# Altium footprint library Antenna.PcbLib: 49 footprints (part 1 of 4)
Each footprint in its own frame and in the unit in brackets; x right, y up, seen from the top. Pads: shape width x height; smd on the part's side, far side on the other; paste and mask are expansions set on the pad; w line width, h text height; cw(c..) or ccw(c..) is an arc to the next point about the centre after c.
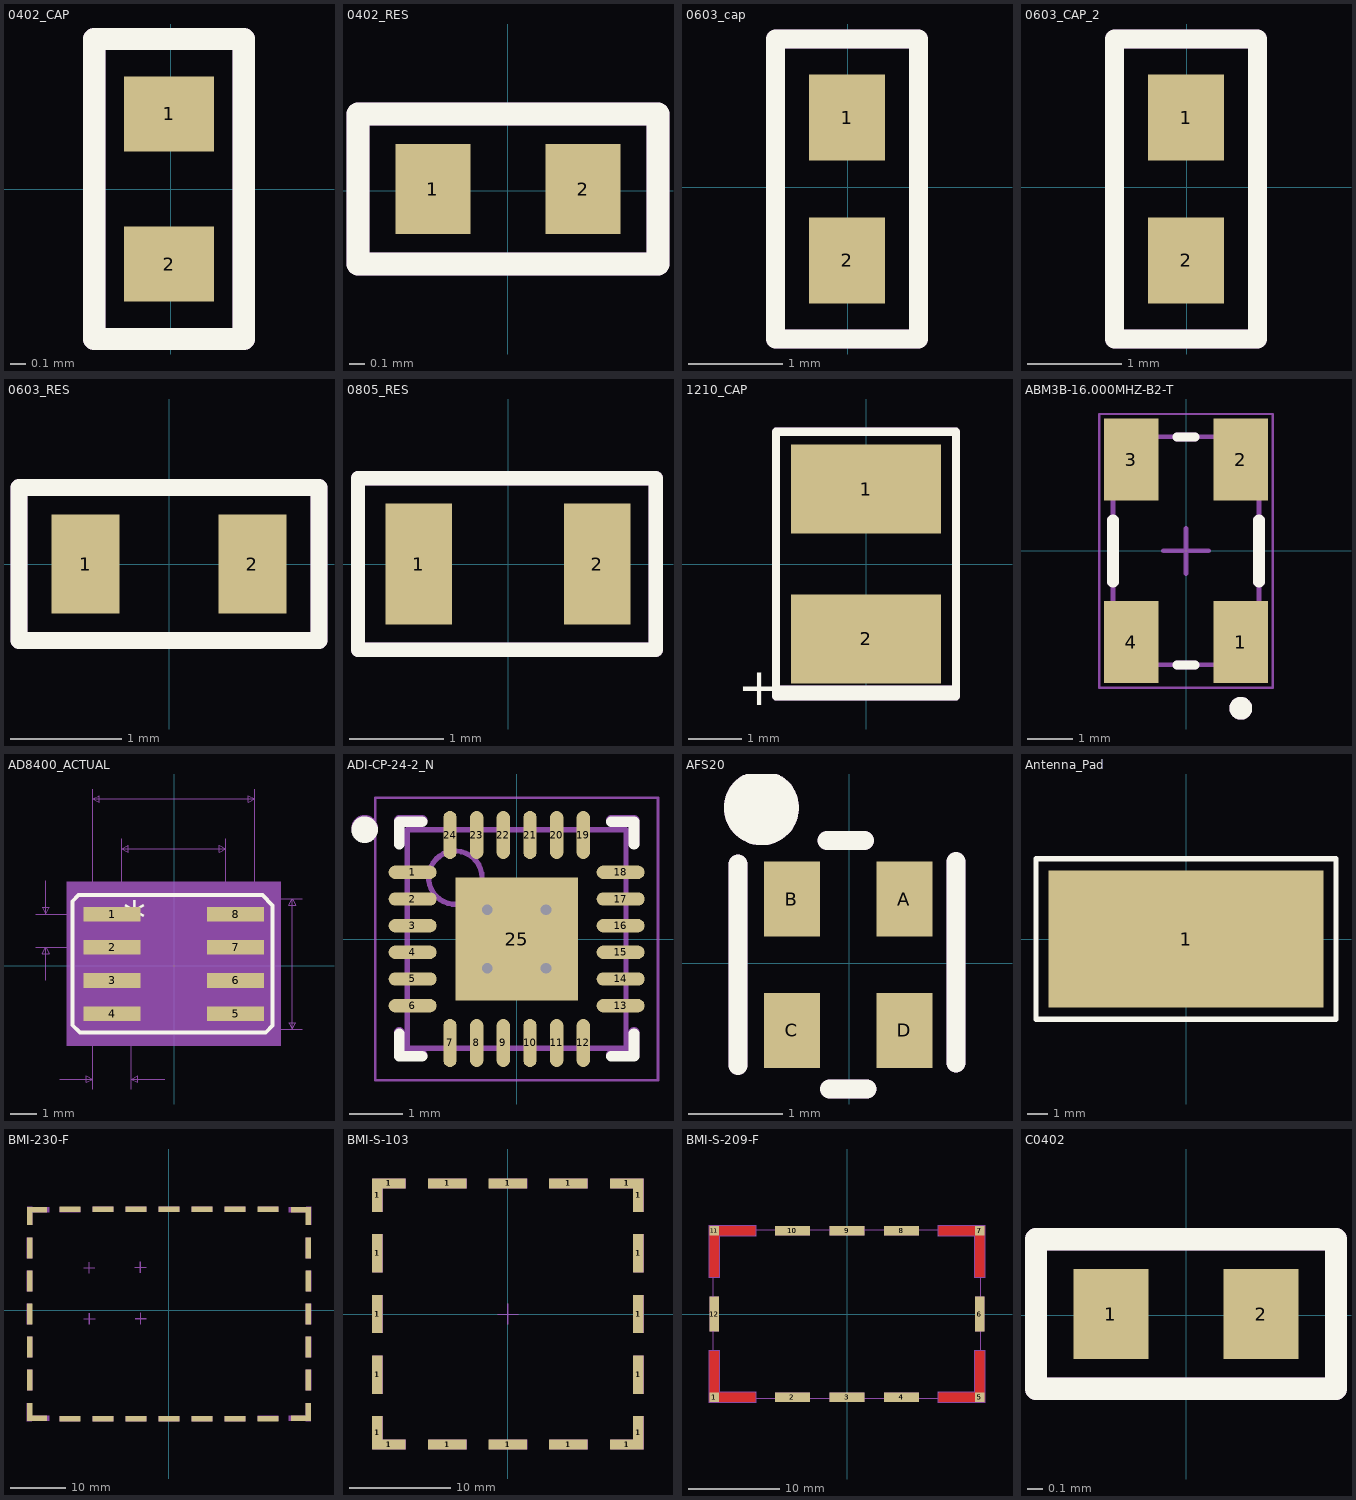
[diagram p0: the footprints below, top view; thin cyan lines are the x and y axes]

## 0402_CAP [mm]
pads (2):
  rect 0.6x0.5 smd mask+0.05: 1(-0.01,0.503) 2(-0.01,-0.497)
Top Overlay:
  lines w0.15: -0.51,-0.997 -0.51,1.003 0.49,1.003 0.49,-0.997 -0.51,-0.997
Mechanical 3:
  lines w0.15: -0.51,-0.997 -0.51,1.003 0.49,1.003 0.49,-0.997 -0.51,-0.997
  text "'.Designator'" at 0.208,-2.832 h0.5
Top Designator:
  text ".Designator" at -7.628,-0.508 h1.52
3D body "G-155_MUR.step": height 0.56, standoff 0, extent -0.279,-0.52 0.229,0.47

## 0402_RES [mm]
pads (2):
  rect 0.5x0.6 smd: 1(-0.499,0.01) 2(0.501,0.01)
Top Overlay:
  lines w0.152: -0.999,-0.49 -0.999,0.51 1.001,0.51 1.001,-0.49 -0.999,-0.49
Mechanical 3:
  lines w0.152: -0.999,-0.49 -0.999,0.51 1.001,0.51 1.001,-0.49 -0.999,-0.49
  text "'.Designator'" at -2.832,-0.208 h0.5
Top Designator:
  text ".Designator" at -7.618,-0.497 h1.52
3D body "0402_RES.STEP": height 0.41, standoff 0.01, extent -0.551,-0.225 0.449,0.275

## 0603_cap [mil]
height 336.22
pads (2):
  rect 32x36 smd: 1(-0.24,29.36) 2(-0.24,-30.64)
Top Overlay:
  lines w8: -30.24,-63.64 29.76,-63.64 29.76,62.36 -30.24,62.36 -30.24,-63.64
Mechanical 3:
  lines w8: -30.24,-63.64 29.76,-63.64 29.76,62.36 -30.24,62.36 -30.24,-63.64
  text "'.Designator'" at 8.2,-111.51 h19.68
Top Designator:
  text ".Designator" at -300.14,-19.99 h60
3D body "CAP_GCJ1888_MUR.step": height 35, standoff 0, extent -17.48,-38.51 17.48,32.52

## 0603_CAP_2 [mil]
pads (2):
  rect 32x36 smd: 1(-0.24,29.36) 2(-0.24,-30.64)
Top Overlay:
  lines w8: -30.24,-63.64 29.76,-63.64 29.76,62.36 -30.24,62.36 -30.24,-63.64
Mechanical 3:
  lines w8: -30.24,-63.64 29.76,-63.64 29.76,62.36 -30.24,62.36 -30.24,-63.64
  text "'.Designator'" at 8.2,-111.51 h19.68
Top Designator:
  text ".Designator" at -300.14,-19.99 h60
3D body "CAP_GCJ1888_MUR.step": height 35, standoff 0, extent -17.48,-38.51 17.48,32.52

## 0603_RES [mil]
pads (2):
  rect 24x35 smd: 1(-29.5,0) 2(29.5,0)
Top Overlay:
  lines w6: -53,-27 -53,27 53,27 53,-27 -53,-27
Mechanical 3:
  lines w6: -53,-27 -53,27 53,27 53,-27 -53,-27
  text "'.Designator'" at -111.51,-7.2 h19.68
Top Designator:
  text ".Designator" at -299.9,-19.99 h60
3D body "RC0603N.step": height 27.99, standoff 0, extent -31.49,-15.98 31.5,15.99

## 0805_RES [mil]
pads (2):
  rect 28x51 smd: 1(-37.5,0) 2(37.5,0)
Top Overlay:
  lines w6: -63,-36 -63,36 62,36 62,-36 -63,-36
Mechanical 3:
  lines w6: -63,-36 -63,36 62,36 62,-36 -63,-36
  text "'.Designator'" at -111.51,-7.2 h19.68
Top Designator:
  text ".Designator" at -299.9,-19.99 h60
3D body "RC0805N.step": height 27.99, standoff 0, extent -41.48,-23.5 37.5,23.51

## 1210_CAP [mil]
pads (2):
  rect 110x65 smd mask+1.97: 1(0,55) 2(0,-55)
Top Overlay:
  lines w5.91: -65.68,-92 66,-92 66,97 -66,97 -66,-97 66,-97
  lines w6: 66,-97 66,-92
  text "+" at -94.09,-103.69 h27.56
Mechanical 3:
  lines w5.91: -65.68,-92 66,-92 66,97 -66,97 -66,-97 66,-97
  lines w6: 66,-97 66,-92
  text "+" at -94.09,-103.69 h27.56
  text "'.Designator'" at 8.2,-110.51 h19.68
Top Designator:
  text ".Designator" at -315.4,-18.99 h60
3D body "TAJB_AVX.step": height 85, standoff 0, extent -59,-72.99 59.03,72.99

## ABM3B-16.000MHZ-B2-T [mm]
pads (4):
  rect 1.2x1.8 smd: 1(1.2,-2) 2(1.2,2) 3(-1.2,2) 4(-1.2,-2)
Top Overlay:
  circle w0.25: c1.2,-3.45 r0.125
  lines w0.2: -0.2,-2.5 0.2,-2.5 ; -0.2,2.5 0.2,2.5
  lines w0.254: -1.6,-0.673 -1.6,0.673 ; 1.6,-0.673 1.6,0.673
Mechanical 3:
  circle w0.25: c1.2,-3.45 r0.125
  lines w0.2: -0.2,-2.5 0.2,-2.5 ; -0.2,2.5 0.2,2.5
  lines w0.254: -1.6,-0.673 -1.6,0.673 ; 1.6,-0.673 1.6,0.673
  text "'.Designator'" at -2.832,-0.208 h0.5
Top Designator:
  text ".Designator" at -7.618,-0.845 h1.52
Mechanical 13:
  lines w0.1: -1.6,-2.5 -1.6,2.5 1.6,2.5 1.6,-2.5 -1.6,-2.5
Mechanical 15:
  lines w0.05: -1.9,-3 -1.9,3 1.9,3 1.9,-3 -1.9,-3
  lines w0.1: -0.5,0 0.5,0 ; 0,-0.5 0,0.5
3D body "ABM3B.STEP": height 1.13, standoff 0.01, extent -1.588,-2.5 1.587,2.5

## AD8400_ACTUAL [mil]
pads (8):
  rect 86x22 smd: 1(-94,78) 2(-94,28) 3(-94,-22) 4(-94,-72) 5(92,-72) 6(92,-22) 7(92,28) 8(92,78)
Top Overlay:
  lines w6: -84.5,-100.5 82.5,-100.5 ; -154,-89 -154,97 -144.5,106.5 -84.5,106.5 82.5,106.5 132.5,106.5 148,91 148,-90 137.5,-100.5 -142.5,-100.5 -154,-89
  text "*" at -77,48.5 h50
Mechanical 3:
  lines w6: -84.5,-100.5 82.5,-100.5 ; -154,-89 -154,97 -144.5,106.5 -84.5,106.5 82.5,106.5 132.5,106.5 148,91 148,-90 137.5,-100.5 -142.5,-100.5 -154,-89
  text "'.Designator'" at -111.51,-8.2 h19.68
  text "*" at -77,48.5 h50
Mechanical 5:
  region: 160,-120.5 -162,-120.5 -162,126.5 160,126.5
Mechanical 7:
  lines w1: -209,28 -94,28 ; -209,78 -94,78 ; -194,-22 -194,28 ; -194,128 -194,78 ; -173,-170.5 -123,-170.5 ; -123,-185.5 -123,3 -123,266.5 ; -79.5,3 -79.5,191.5 ; -65,-185.5 -65,3 ; -15,-170.5 -65,-170.5 ; -1,-95.5 192.5,-95.5 ; -1,101.5 192.5,101.5 ; 77.5,3 77.5,191.5 ; 121,3 121,266.5 ; -194,28 -199,18 -189,18 -194,28 ; -194,78 -199,88 -189,88 -194,78 ; -123,-170.5 -133,-165.5 -133,-175.5 -123,-170.5 ; -123,251.5 121,251.5 ; -123,251.5 -113,256.5 -113,246.5 -123,251.5 ; -79.5,176.5 77.5,176.5 ; -79.5,176.5 -69.5,181.5 -69.5,171.5 -79.5,176.5 ; -65,-170.5 -55,-165.5 -55,-175.5 -65,-170.5 ; 77.5,176.5 67.5,181.5 67.5,171.5 77.5,176.5 ; 121,251.5 111,256.5 111,246.5 121,251.5 ; 177.5,-95.5 177.5,101.5 ; 177.5,-95.5 172.5,-85.5 182.5,-85.5 177.5,-95.5 ; 177.5,101.5 172.5,91.5 182.5,91.5 177.5,101.5
  text "Default Padstyle: RX86Y22D0T" at -351,-295.5 h50
  text "Pin One Padstyle: RX86Y22D0T" at -351,-355.5 h50
  text "Alt 1 Padstyle: OX60Y90D30P" at -338.5,-535.5 h50
  text "Alt 2 Padstyle: OX90Y60D30P" at -338.5,-595.5 h50
  text "0.157in/3.988mm" at -94.75,196.5 h25
  text "0.244in/6.198mm" at -94.75,271.5 h25
  text "0.197in/5.004mm" at 197.5,-9.5 h25
  text "0.05in/1.27mm" at -376.5,40.5 h25
  text "0.05in/1.27mm" at -175.25,-215.5 h25
Top Designator:
  text ".Designator" at 12.13,-178.83 h60
Mechanical 13:
  lines w0: -13,101.5 ccw(c-1,101.5) 11,101.5
  lines w1: -123,-82 -123,-62 -79.5,-62 -79.5,-82 -123,-82 ; -123,-32 -123,-12 -79.5,-12 -79.5,-32 -123,-32 ; -123,18 -123,38 -79.5,38 -79.5,18 -123,18 ; -123,68 -123,88 -79.5,88 -79.5,68 -123,68 ; -79.5,-95.5 77.5,-95.5 77.5,101.5 -79.5,101.5 -79.5,-95.5 ; 77.5,-82 77.5,-62 121,-62 121,-82 77.5,-82 ; 77.5,-32 77.5,-12 121,-12 121,-32 77.5,-32 ; 77.5,18 77.5,38 121,38 121,18 77.5,18 ; 77.5,68 77.5,88 121,88 121,68 77.5,68
  text "*" at -77,48.5 h50
Mechanical 15:
  region: -89.5,-99 -147,-99 -147,105 -89.5,105 -89.5,111.5 87.5,111.5 87.5,105 145,105 145,-99 87.5,-99 87.5,-105.5 -89.5,-105.5
  lines w6: -147,-99 -147,105 -89.5,105 -89.5,111.5 87.5,111.5 87.5,105 145,105 145,-99 87.5,-99 87.5,-105.5 -89.5,-105.5 -89.5,-99 -147,-99
3D body "R_8_ADI.step": height 69.09, standoff 0, extent -121.01,-96 123.01,101

## ADI-CP-24-2_N [mm] "QFN, 24-Leads, Body 4x4mm, Pitch 0.5mm, Thermal Pad 2.3x2.3mm, IPC Medium Density"
height 1
pads (25):
  oval 0.9x0.25 smd: 1(-1.95,1.25) 2(-1.95,0.75) 3(-1.95,0.25) 4(-1.95,-0.25) 5(-1.95,-0.75) 6(-1.95,-1.25) 13(1.95,-1.25) 14(1.95,-0.75) 15(1.95,-0.25) 16(1.95,0.25) 17(1.95,0.75) 18(1.95,1.25)
  oval 0.25x0.9 smd: 7(-1.25,-1.95) 8(-0.75,-1.95) 9(-0.25,-1.95) 10(0.25,-1.95) 11(0.75,-1.95) 12(1.25,-1.95) 19(1.25,1.95) 20(0.75,1.95) 21(0.25,1.95) 22(-0.25,1.95) 23(-0.75,1.95) 24(-1.25,1.95)
  rect 2.3x2.3 smd: 25(0,0)
via -0.55,0.55 diameter 0.5 hole 0.2
via 0.55,0.55 diameter 0.5 hole 0.2
via -0.55,-0.55 diameter 0.5 hole 0.2
via 0.55,-0.55 diameter 0.5 hole 0.2
Top Overlay:
  circle w0.25: c-2.85,2.05 r0.125
  lines w0.2: -2.2,-1.775 -2.2,-2.2 -1.775,-2.2 ; -2.2,1.775 -2.2,2.2 -1.775,2.2 ; 1.775,-2.2 2.2,-2.2 2.2,-1.775 ; 1.775,2.2 2.2,2.2 2.2,1.775
Mechanical 3:
  circle w0.25: c-2.85,2.075 r0.125
  lines w0.2: -2.2,-1.75 -2.2,-2.175 -1.775,-2.175 ; -2.2,1.8 -2.2,2.225 -1.775,2.225 ; 1.775,-2.175 2.2,-2.175 2.2,-1.75 ; 1.775,2.225 2.2,2.225 2.2,1.8
  text "'.Designator'" at -2.832,-0.183 h0.5
Top Designator:
  text ".Designator" at -7.701,-0.508 h1.52
Mechanical 13:
  circle w0.1: c-1.15,1.15 r0.5
  lines w0.1: -2.05,-2.05 -2.05,2.05 2.05,2.05 2.05,-2.05 -2.05,-2.05
Mechanical 15:
  lines w0.05: -2.65,-2.65 -2.65,2.65 2.65,2.65 2.65,-2.65 -2.65,-2.65
  lines w0.1: -0.5,0 0.5,0 ; 0,-0.5 0,0.5
3D body: height 1, standoff 0, extent -2.05,-2.05 2.05,2.05

## AFS20 [mm]
pads (4):
  rect 0.6x0.8 smd: A(0.586,0.686) B(-0.614,0.686) C(-0.614,-0.714) D(0.586,-0.714)
Top Overlay:
  circle w0.4: c-0.939,1.661 r0.2
  lines w0.203: -1.189,-1.089 -1.189,1.061 ; -0.239,1.311 0.161,1.311 ; -0.214,-1.339 0.186,-1.339 ; 1.136,-1.064 1.136,1.086
Mechanical 3:
  circle w0.4: c-0.939,1.661 r0.2
  lines w0.203: -1.189,-1.089 -1.189,1.061 ; -0.239,1.311 0.161,1.311 ; -0.214,-1.339 0.186,-1.339 ; 1.136,-1.064 1.136,1.086
  text "'.Designator'" at -2.832,-0.157 h0.5
Top Designator:
  text ".Designator" at -7.618,-0.198 h1.52
3D body "AFS20.STEP": height 0.91, standoff 0.01, extent -0.8,-0.974 0.8,1.026

## Antenna_Pad [mm] "Pad for Tape Measure antenna"
pads (1):
  rect 13.5x6.75 smd: 1(0,0)
Top Overlay:
  lines w0.254: -7.366,-3.937 -7.366,3.937 7.366,3.937 7.366,-3.937 -7.366,-3.937
Top Designator:
  text ".Designator" at -7.618,-0.508 h1.52

## BMI-230-F [mm]
pads (70):
  rect 1x3.8 on Mech3: 1(-25.323,-0.638) 1(-25.323,-0.638) 1(-25.318,5.338) 1(-25.318,11.358) 1(-25.298,-12.658) 1(-25.298,-12.658) 1(-25.298,-6.658) 1(-25.298,-6.658) 1(25.298,11.358) 1(25.318,-12.657) 1(25.318,-6.657) 1(25.318,-0.637) 1(25.323,5.338)
  rect 1x3.35 on Mech3: 1(-25.323,-18.442) 1(-25.298,17.143) 1(25.297,-18.442) 1(25.322,17.143)
  rect 1x3.8 smd: 1(-25.311,5.351) 1(-25.311,11.351) 1(-25.31,-12.659) 1(-25.31,-12.659) 1(-25.31,-6.659) 1(-25.31,-6.659) 1(-25.31,-0.649) 1(-25.31,-0.649) 1(25.31,5.35) 1(25.31,11.36) 1(25.311,-12.65) 1(25.311,-6.65) 1(25.311,-0.65)
  rect 1x3.35 smd: 1(-25.31,-18.435) 1(-25.31,17.135) 1(25.31,-18.435) 1(25.31,17.135)
  rect 3.7x1 smd: 1(-23.957,-19.613) 1(-23.954,18.313) 1(23.954,-19.613) 1(23.956,18.313)
  rect 4.14x1 on Mech3: 1(-23.724,-19.601) 1(-23.723,18.302) 1(23.723,-19.601) 1(23.723,18.301)
  rect 3.8x1 on Mech3: 1(-18.013,-19.626) 1(-18.003,18.307) 1(-11.993,-19.626) 1(-11.983,18.333) 1(-6.018,-19.632) 1(-6.007,18.327) 1(-0.013,-19.626) 1(0.012,18.327) 1(6.007,-19.626) 1(6.017,18.333) 1(11.982,-19.632) 1(11.993,18.327) 1(18.002,-19.607) 1(18.012,18.327)
  rect 3.8x1 smd: 1(-18.006,-19.619) 1(-18.004,18.319) 1(-12.006,-19.619) 1(-11.994,18.319) 1(-6.006,-19.619) 1(-5.994,18.319) 1(-0.006,-19.619) 1(0.006,18.319) 1(5.994,-19.619) 1(6.006,18.319) 1(11.994,-19.619) 1(12.006,18.319) 1(18.004,-19.619) 1(18.006,18.319)
Mechanical 2:
  lines w0.025: -15.464,7.785 -14.464,7.785 ; -14.464,6.785 -14.464,7.785 ; -14.464,8.785 -14.464,7.785 ; -13.464,7.785 -14.464,7.785 ; -6.142,7.819 -5.142,7.819 ; -6.106,-1.503 -5.106,-1.503 ; -5.142,6.819 -5.142,7.819 ; -5.142,8.819 -5.142,7.819 ; -5.106,-2.503 -5.106,-1.503 ; -5.106,-0.503 -5.106,-1.503 ; -4.142,7.819 -5.142,7.819 ; -4.106,-1.503 -5.106,-1.503 ; -14.428,-1.538 -15.428,-1.538 -14.428,-1.538 ; -14.428,-1.538 -14.428,-2.538 -14.428,-1.538 ; -14.428,-1.538 -13.428,-1.538 -14.428,-1.538 ; -14.428,-1.538 -14.428,-0.538 -14.428,-1.538
Mechanical 3:
  lines w0.025: -15.464,7.734 -14.464,7.734 ; -14.464,6.734 -14.464,7.734 ; -14.464,8.734 -14.464,7.734 ; -13.464,7.734 -14.464,7.734 ; -6.192,7.819 -5.192,7.819 ; -6.106,-1.452 -5.106,-1.452 ; -5.192,6.819 -5.192,7.819 ; -5.192,8.819 -5.192,7.819 ; -5.106,-2.452 -5.106,-1.452 ; -5.106,-0.452 -5.106,-1.452 ; -4.192,7.819 -5.192,7.819 ; -4.106,-1.452 -5.106,-1.452 ; -14.378,-1.538 -15.378,-1.538 -14.378,-1.538 ; -14.378,-1.538 -14.378,-2.538 -14.378,-1.538 ; -14.378,-1.538 -13.378,-1.538 -14.378,-1.538 ; -14.378,-1.538 -14.378,-0.538 -14.378,-1.538
Top Designator:
  text ".Designator" at -7.618,-1.158 h1.52

## BMI-S-103 [mm]
pads (40):
  rect 1x3.3 smd: 1(-12.9,-11.75) 1(-12.9,11.75) 1(12.9,-11.75) 1(12.9,11.75)
  rect 1x3.8 smd: 1(-12.9,-6) 1(-12.9,0) 1(-12.9,6) 1(12.9,-6) 1(12.9,0) 1(12.9,6)
  rect 1x3.3 on Mech3: 1(-12.849,-11.75) 1(-12.849,11.75) 1(12.951,-11.75) 1(12.951,11.75)
  rect 1x3.8 on Mech3: 1(-12.849,-6) 1(-12.849,0) 1(-12.849,6) 1(12.951,-6) 1(12.951,0) 1(12.951,6)
  rect 3.3x1 smd: 1(-11.75,-12.9) 1(-11.75,12.9) 1(11.75,-12.9) 1(11.75,12.9)
  rect 3.3x1 on Mech3: 1(-11.699,-12.9) 1(-11.699,12.9) 1(11.801,-12.9) 1(11.801,12.9)
  rect 3.8x1 smd: 1(-6,-12.9) 1(-6,12.9) 1(0,-12.9) 1(0,12.9) 1(6,-12.9) 1(6,12.9)
  rect 3.8x1 on Mech3: 1(-5.949,-12.9) 1(-5.949,12.9) 1(0.051,-12.9) 1(0.051,12.9) 1(6.051,-12.9) 1(6.051,12.9)
Mechanical 2:
  lines w0.025: -1,0 0,0 ; 0,-1 0,0 ; 0,1 0,0 ; 1,0 0,0
Mechanical 3:
  lines w0.025: -0.949,0 0.051,0 ; 0.051,-1 0.051,0 ; 0.051,1 0.051,0 ; 1.051,0 0.051,0
Top Designator:
  text ".Designator" at -7.618,-0.508 h1.52

## BMI-S-209-F [mil]
pads (24):
  rect 40x40 smd mask+1.97: 1(-574,-360) 5(574,-360) 7(574,360) 11(-574,360)
  rect 40x40 on Mech3 mask+1.97: 1(-574,-360) 5(574,-360) 7(574,360) 11(-574,360)
  rect 150x40 smd mask+1.97: 2(-236,-360) 3(0,-360) 4(236,-360) 8(236,360) 9(0,360) 10(-236,360)
  rect 150x40 on Mech3 mask+1.97: 2(-236,-360) 3(0,-360) 4(236,-360) 8(236,360) 9(0,360) 10(-236,360)
  rect 40x150 smd mask+1.97: 6(574,0) 12(-574,0)
  rect 40x150 on Mech3 mask+1.97: 6(574,0) 12(-574,0)
Top Layer:
  region: -594,380 -594,161 -554,161 -554,340 -397,340 -397,380
  region: 594,-380 594,-161 554,-161 554,-340 397,-340 397,-380
  region: 594,380 594,161 554,161 554,340 397,340 397,380
  region: -594,-380 -397,-380 -397,-340 -554,-340 -554,-161 -594,-161
Top Paste:
  region: -594,380 -594,161 -554,161 -554,340 -397,340 -397,380
  region: 594,-380 594,-161 554,-161 554,-340 397,-340 397,-380
  region: 594,380 594,161 554,161 554,340 397,340 397,380
  region: -594,-380 -397,-380 -397,-340 -554,-340 -554,-161 -594,-161
Top Solder:
  region: -598,384 -598,157 -550,157 -550,336 -393,336 -393,384
  region: 598,-384 598,-157 550,-157 550,-336 393,-336 393,-384
  region: 598,384 598,157 550,157 550,336 393,336 393,384
  region: -598,-384 -393,-384 -393,-336 -550,-336 -550,-157 -598,-157
Mechanical 3:
  region: -594,380 -594,161 -554,161 -554,340 -397,340 -397,380
  region: 594,-380 594,-161 554,-161 554,-340 397,-340 397,-380
  region: 594,380 594,161 554,161 554,340 397,340 397,380
  region: -594,-380 -397,-380 -397,-340 -554,-340 -554,-161 -594,-161
  region: -598,384 -598,157 -550,157 -550,336 -393,336 -393,384
  region: 598,-384 598,-157 550,-157 550,-336 393,-336 393,-384
  region: 598,384 598,157 550,157 550,336 393,336 393,384
  region: -598,-384 -393,-384 -393,-336 -550,-336 -550,-157 -598,-157
  region: -594,380 -594,161 -554,161 -554,340 -397,340 -397,380
  region: 594,-380 594,-161 554,-161 554,-340 397,-340 397,-380
  region: 594,380 594,161 554,161 554,340 397,340 397,380
  region: -594,-380 -397,-380 -397,-340 -554,-340 -554,-161 -594,-161
  lines w1: -578,-177 -570,-177 -570,-356 -413,-356 -413,-364 ; -578,-59 -570,-59 -570,59 -578,59 ; -578,177 -570,177 -570,356 -413,356 -413,364 ; -295,-364 -295,-356 -177,-356 -177,-364 ; -295,364 -295,356 -177,356 -177,364 ; -59,-364 -59,-356 59,-356 59,-364 ; -59,364 -59,356 59,356 59,364 ; 177,-364 177,-356 295,-356 295,-364 ; 177,364 177,356 295,356 295,364 ; 413,-364 413,-356 570,-356 570,-177 578,-177 ; 413,364 413,356 570,356 570,177 578,177 ; 578,-59 570,-59 570,59 578,59 ; -578,-364 -578,364 578,364 578,-364 -578,-364
Top Designator:
  text ".Designator" at -299.9,-19.99 h60
Mechanical 13:
  lines w1: -578,-177 -570,-177 -570,-356 -413,-356 -413,-364 ; -578,-59 -570,-59 -570,59 -578,59 ; -578,177 -570,177 -570,356 -413,356 -413,364 ; -295,-364 -295,-356 -177,-356 -177,-364 ; -295,364 -295,356 -177,356 -177,364 ; -59,-364 -59,-356 59,-356 59,-364 ; -59,364 -59,356 59,356 59,364 ; 177,-364 177,-356 295,-356 295,-364 ; 177,364 177,356 295,356 295,364 ; 413,-364 413,-356 570,-356 570,-177 578,-177 ; 413,364 413,356 570,356 570,177 578,177 ; 578,-59 570,-59 570,59 578,59 ; -578,-364 -578,364 578,364 578,-364 -578,-364

## C0402 [mm]
height 8.54
pads (2):
  rect 0.5x0.6 smd mask+0.05: 1(-0.503,0.01) 2(0.497,0.01)
Top Overlay:
  lines w0.15: -1.003,-0.49 0.997,-0.49 0.997,0.51 -1.003,0.51 -1.003,-0.49
Mechanical 3:
  lines w0.15: -1.003,-0.49 0.997,-0.49 0.997,0.51 -1.003,0.51 -1.003,-0.49
  text "'.Designator'" at -2.832,-0.208 h0.5
Top Designator:
  text ".Designator" at -7.618,-0.498 h1.52
3D body "G-155_MUR.step": height 0.56, standoff 0, extent -0.52,-0.229 0.47,0.279